# EAGLE library part 74AHCT245 (library FTWearable)
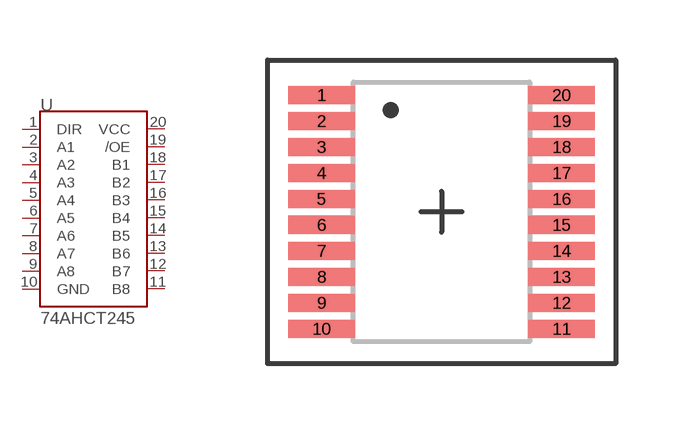
[diagram p2: symbol with the pads of TSSOP-20_LEVEL_A; footprint TSSOP-20_LEVEL_A]

Designator prefix U

## 74AHCT245  [TSSOP-20_LEVEL_A]
1  DIR
2  A1
3  A2
4  A3
5  A4
6  A5
7  A6
8  A7
9  A8
10  GND
11  B8
12  B7
13  B6
14  B5
15  B4
16  B3
17  B2
18  B1
19  /OE
20  VCC

## Footprint TSSOP-20_LEVEL_A (pad centres in mm)
smd 1.65 x 0.45: 1 -3,2.925; 2 -3,2.275; 3 -3,1.625; 4 -3,0.975; 5 -3,0.325; 6 -3,-0.325; 7 -3,-0.975; 8 -3,-1.625; 9 -3,-2.275; 10 -3,-2.925; 11 3,-2.925; 12 3,-2.275; 13 3,-1.625; 14 3,-0.975; 15 3,-0.325; 16 3,0.325; 17 3,0.975; 18 3,1.625; 19 3,2.275; 20 3,2.925